# Altium schematic symbol library 10067847-001RLF.SchLib: 1 symbol
Pins are listed as number, name and electrical type; pins without a type are passive.

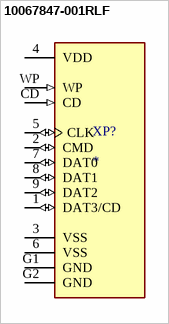
[diagram p0: symbol 10067847-001RLF]

## 10067847-001RLF
designator XP?
Conn Data SD (SanDisk Memory) Card Reader Push - Push Type | Amphenol FCI (Amphenol CS) 10067847-001RLF; MF: Amphenol ICC (FCI); SnapEDA_Link: https://www.snapeda.com/parts/10067847-001RLF/Amphenol+FCI/view-part/?ref=snap; Package: None; Value: *; MP: 10067847-001RLF; Check_prices: https://www.snapeda.com/parts/10067847-001RLF/Amphenol+FCI/view-part/?ref=eda
footprint 10067847-001RLF
pins: 1 DAT3/CD (io), 2 CMD (io), 3 VSS (power), 4 VDD (power), 5 CLK (io), 6 VSS (power), 7 DAT0 (io), 8 DAT1 (io), 9 DAT2 (io), CD (in), G1 GND (power), G2 GND (power), WP (in)